# Altium schematic symbol library coilcraft.SCHLIB: 1 symbol
Pins are listed as number, name and electrical type; pins without a type are passive.

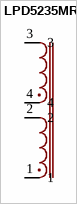
[diagram p0: symbol LPD5235MR]

## LPD5235MR
designator ?
footprint LPD5235MR
pins: 1, 2, 3, 4